# Altium schematic symbol library LB P4SG.Schlib: 1 symbol
Pins are listed as number, name and electrical type; pins without a type are passive.

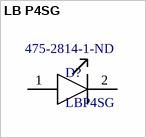
[diagram p0: symbol LB P4SG]

## LB P4SG
designator D?, comment LBP4SG  Supplier Part Number 1: 475-2814-1-ND
LED BLUE CLEAR SMD BOTTOM ENTRY; Supplier 1: Digi-Key
footprint LB P4SG (Footprint for a reverse-mount Osram LED)
pins: 1 Anode, 2 Cathode